# Altium schematic symbol library TPS3803.SCHLIB: 1 symbol
Pins are listed as number, name and electrical type; pins without a type are passive.

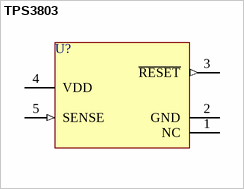
[diagram p0: symbol TPS3803]

## TPS3803
designator U?
pins: 1 NC, 2 GND, 3 ~{RESET} (out) "The SW pin is the output of the internal power switch. Connect this pin to the inductor, catch diode and boost capacitor.", 4 VDD (power), 5 SENSE (in)